# Altium footprint library My.PcbLib: 52 footprints (part 2 of 4)
Each footprint in its own frame and in the unit in brackets; x right, y up, seen from the top. Pads: shape width x height; smd on the part's side, far side on the other; paste and mask are expansions set on the pad; w line width, h text height; cw(c..) or ccw(c..) is an arc to the next point about the centre after c.
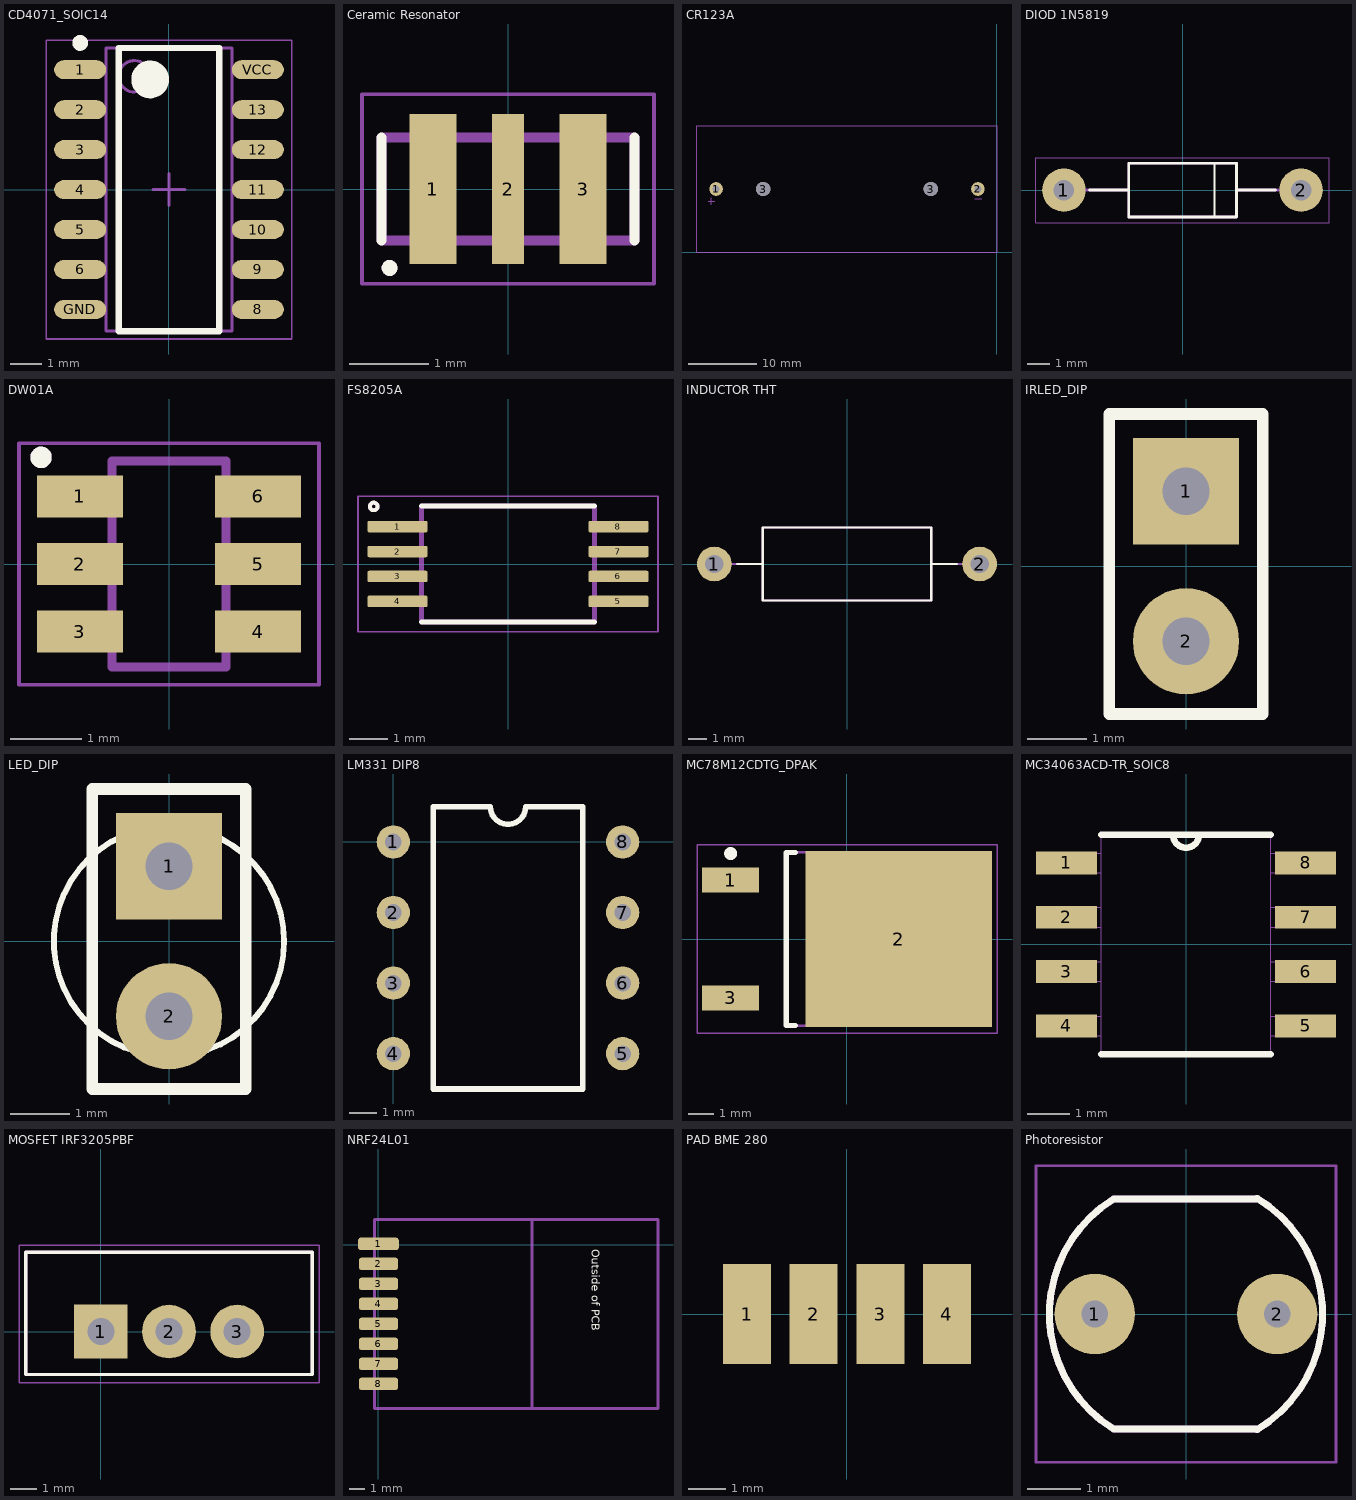
[diagram p1: the footprints below, top view; thin cyan lines are the x and y axes]

## CD4071_SOIC14 [mm] "SOIC, 14-Leads, Body 10,20x5,30mm, Pitch 1,27mm, IPC Medium Density"
height 2
pads (14):
  oval 1.65x0.6 smd: 1(-2.825,3.81) 2(-2.825,2.54) 3(-2.825,1.27) 4(-2.825,0) 5(-2.825,-1.27) 6(-2.825,-2.54) 8(2.825,-3.81) 9(2.825,-2.54) 10(2.825,-1.27) 11(2.825,0) 12(2.825,1.27) 13(2.825,2.54) GND(-2.825,-3.81) VCC(2.825,3.81)
Top Overlay:
  circle w0.25: c-2.825,4.66 r0.125
  circle w0.6: c-0.6,3.5 r0.3
  lines w0.2: -1.6,-4.5 -1.6,4.5 1.6,4.5 1.6,-4.5 -1.6,-4.5
Mechanical 13:
  circle w0.1: c-1.1,3.6 r0.5
  lines w0.1: -2,-4.5 -2,4.5 2,4.5 2,-4.5 -2,-4.5
Top Courtyard (Mech15):
  lines w0.05: -3.9,-4.75 -3.9,4.75 3.9,4.75 3.9,-4.75 -3.9,-4.75
  lines w0.1: -0.5,0 0.5,0 ; 0,-0.5 0,0.5
3D body: height 1.57, standoff 0.1, extent -2,-4.5 2,4.5

## Ceramic Resonator [mm]
pads (3):
  rect 0.6x1.9 smd: 1(-0.95,0) 3(0.95,0)
  rect 0.4x1.9 smd: 2(0,0)
Top Overlay:
  circle w0.1: c-1.5,-1 r0.05
  lines w0.127: -1.6,-0.65 -1.6,0.65 ; 1.6,-0.65 1.6,0.65
Mechanical 13:
  circle w0.1: c-1.5,-1 r0.05
  lines w0.127: -1.6,-0.65 1.6,-0.65 1.6,0.65 -1.6,0.65 -1.6,-0.65
Top Courtyard (Mech15):
  lines w0.05: -1.85,-1.2 1.85,-1.2 1.85,1.2 -1.85,1.2 -1.85,-1.2
3D body "step_temp.STEP": height 1, standoff 0, extent -1.6,-0.65 1.6,0.65

## CR123A [mm]
height 15.49
pads (4):
  round 2 hole 1: 1(-41.2,9.25) 2(-2.8,9.25)
  round 2.1 hole 2.1 unplated: 3(-34.3,9.25) 3(-9.7,9.25)
Top Courtyard:
  lines w0.127: -42.375,7.45 -41.375,7.45 ; -41.875,6.95 -41.875,7.95 ; -3.25,7.85 -2.25,7.85 ; 0,0 -44,0 -44,18.5 0,18.5 ; 0.005,0 0.005,18.5
3D body "step_temp.STEP": height 15.24, standoff -3.56, extent -43.613,0.175 -0.687,18.463

## DIOD 1N5819 [mm]
height 2.7
pads (2):
  round 1.9 hole 0.9 mask+0.102: 1(-5.18,0) 2(5.18,0)
Top Overlay:
  lines w0.1: 1.4,-1.1 1.4,1.1
  lines w0.127: -4.065,0 -2.35,0 ; 4.065,0 2.35,0 ; -2.35,0 -2.35,-1.175 2.35,-1.175 2.35,0 ; -2.35,0 -2.35,1.175 2.35,1.175 2.35,0
Mechanical 13:
  lines w0.127: -5.18,0 -2.35,0 ; 5.18,0 2.35,0 ; -2.35,0 -2.35,-1.175 2.35,-1.175 2.35,0 ; -2.35,0 -2.35,1.175 2.35,1.175 2.35,0
Top Courtyard (Mech15):
  lines w0.05: -6.4,-1.425 6.4,-1.425 6.4,1.425 -6.4,1.425 -6.4,-1.425

## DW01A [mm]
height 1.45
pads (6):
  rect 1.21x0.59 smd: 1(-1.255,0.95) 2(-1.255,0) 3(-1.255,-0.95) 4(1.255,-0.95) 5(1.255,0) 6(1.255,0.95)
Top Overlay:
  circle w0.2: c-1.8,1.5 r0.05
Mechanical 13:
  circle w0.2: c-1.8,1.5 r0.05
  lines w0.127: -0.8,-1.45 -0.8,1.45 0.8,1.45 0.8,-1.45 -0.8,-1.45
Top Courtyard (Mech15):
  lines w0.05: -2.11,-1.7 2.11,-1.7 2.11,1.7 -2.11,1.7 -2.11,-1.7
3D body "step_temp.STEP": height 1.45, standoff 0, extent -1.4,-1.45 1.4,1.45

## FS8205A [mm]
height 1.2
pads (8):
  rrect25% 1.56x0.3 smd: 1(-2.88,0.975) 2(-2.88,0.325) 3(-2.88,-0.325) 4(-2.88,-0.975) 5(2.88,-0.975) 6(2.88,-0.325) 7(2.88,0.325) 8(2.88,0.975)
Top Overlay:
  circle w0.1: c-3.5,1.5 r0.1
  lines w0.127: -2.25,-1.515 2.25,-1.515 ; -2.25,1.515 2.25,1.515
Mechanical 13:
  circle w0.1: c-3.5,1.5 r0.1
  lines w0.127: -2.25,-1.515 -2.25,1.515 2.25,1.515 2.25,-1.515 -2.25,-1.515
Top Courtyard (Mech15):
  lines w0.05: -3.91,-1.765 -3.91,1.765 3.91,1.765 3.91,-1.765 -3.91,-1.765
3D body "step_temp.STEP": height 1.2, standoff 0, extent -3.2,-1.465 3.2,1.465

## INDUCTOR THT [mm]
height 4
pads (2):
  round 1.9 hole 1: 1(-7.25,0) 2(7.25,0)
Top Overlay:
  lines w0.127: -6.005,0 -4.6,0 ; 4.6,0 6.005,0 ; -4.6,-2 -4.6,2 4.6,2 4.6,-2 -4.6,-2
Mechanical 13:
  lines w0.127: -7,0 -4.6,0 ; 4.6,0 7,0 ; -4.6,-2 4.6,-2 4.6,2 -4.6,2 -4.6,-2
3D body "step_temp.STEP": height 6, standoff -19, extent -7.375,-1.95 7.425,2.05

## IRLED_DIP [mm]
pads (2):
  rect 1.8x1.8 hole 0.8: 1(0,1.27)
  round 1.8 hole 0.8: 2(0,-1.27)
Top Overlay:
  lines w0.2: -1.3,-2.5 -1.3,2.58 1.3,2.58 1.3,-2.5 -1.3,-2.5
3D body "PLS-2_(DS1021_CONNFLY).stp": height 8.7, standoff -3, extent -1.24,-2.54 1.3,2.54

## LED_DIP [mm]
pads (2):
  rect 1.8x1.8 hole 0.8: 1(0,1.27)
  round 1.8 hole 0.8: 2(0,-1.27)
Top Overlay:
  circle w0.1: c0,0 r1.95
  lines w0.2: -1.3,-2.5 -1.3,2.58 1.3,2.58 1.3,-2.5 -1.3,-2.5

## LM331 DIP8 [mm]
pads (8):
  round 1.2 hole 0.6: 1(0,0) 2(0,-2.54) 3(0,-5.08) 4(0,-7.62) 5(8.255,-7.62) 6(8.255,-5.08) 7(8.255,-2.54) 8(8.255,0)
Top Overlay:
  lines w0.2: 1.435,-8.89 1.435,1.27 3.492,1.27 ccw(c4.127,1.27) 4.763,1.27 6.82,1.27 6.82,-8.89 1.435,-8.89

## MC78M12CDTG_DPAK [mm] "D-PAK, 3-Pads, Body 6,20x6,72mm (max), IPC Medium Density"
height 2.38
pads (3):
  rect 2.2x0.95 smd: 1(-4.5,2.28) 3(-4.5,-2.28)
  rect 7.2x6.8 smd: 2(2,0)
Top Overlay:
  circle w0.25: c-4.5,3.305 r0.125
  lines w0.2: -2,-3.35 -2.35,-3.35 -2.35,3.35 -2,3.35
Mechanical 13:
  lines w0.1: -2.35,-3.35 3.85,-3.35 3.85,3.35 -2.35,3.35 -2.35,-3.35
Top Courtyard (Mech15):
  lines w0.05: -5.8,-3.65 5.8,-3.65 5.8,3.65 -5.8,3.65 -5.8,-3.65
  lines w0.1: -0.5,0 0.5,0 ; 0,-0.5 0,0.5
3D body: height 2.38, standoff 0, extent -2.35,-3.35 3.85,3.35

## MC34063ACD-TR_SOIC8 [mil]
pads (8):
  rect 56x21 smd: 1(-110,75) 2(-110,25) 3(-110,-25) 4(-110,-75) 5(110,-75) 6(110,-25) 7(110,25) 8(110,75)
Top Overlay:
  lines w6: -78,-101 78,-101 ; -78,101 -12,101 ; 78,101 12,101 ; -12,101 ccw(c0,101) 12,101 ; -12,101 12,101
Mechanical 13:
  lines w0: -12,101 ccw(c0,101) 12,101 ; -12,101 -78,101 -78,-101 78,-101 78,101 12,101 ; -12,101 12,101 ; -124,-84 -78,-84 -78,-66 -124,-66 -124,-84 ; -124,-34 -78,-34 -78,-16 -124,-16 -124,-34 ; -124,16 -78,16 -78,34 -124,34 -124,16 ; -124,66 -78,66 -78,84 -124,84 -124,66 ; 78,-84 124,-84 124,-66 78,-66 78,-84 ; 78,-34 124,-34 124,-16 78,-16 78,-34 ; 78,16 124,16 124,34 78,34 78,16 ; 78,66 124,66 124,84 78,84 78,66
3D body "step_temp.STEP": height 68.9, standoff 0, extent -118.11,-96.46 118.11,96.46

## MOSFET IRF3205PBF [mm]
pads (3):
  rect 2x2 hole 1: 1(0,0)
  round 2 hole 1: 2(2.54,0) 3(5.08,0)
Top Overlay:
  lines w0.127: -2.8,-1.6 -2.8,2.325 -2.8,2.96 7.88,2.96 7.88,2.325 7.88,-1.6 -2.8,-1.6
Mechanical 13:
  lines w0.127: -2.8,-1.6 -2.8,2.325 -2.8,2.96 7.88,2.96 7.88,2.325 7.88,-1.6 -2.8,-1.6
Top Courtyard (Mech15):
  lines w0.05: -3.05,-1.9 -3.05,3.21 8.13,3.21 8.13,-1.9 -3.05,-1.9
3D body "step_temp.STEP": height 20.57, standoff -10.67, extent -2.54,-1.397 7.62,2.794

## NRF24L01 [mm]
pads (8):
  rrect50% 2.6x0.8 smd: 1(0,0.05)
  rrect50% 2.5x0.8 smd: 2(0,-1.22) 3(0,-2.49) 4(0,-3.76) 5(0,-5.03) 6(0,-6.3) 7(0,-7.57) 8(0,-8.84)
Top Overlay:
  text "Outside of PCB" at 13.55,-0.275 h0.5
Top Courtyard:
  lines w0.2: 9.75,-10.4 9.75,1.6 ; -0.25,-10.4 -0.25,1.6 17.75,1.6 17.75,-10.4 -0.25,-10.4
3D body "NRF24L01.stp": height 1.87, standoff -0.01, extent -0.25,-10.4 17.75,1.6

## PAD BME 280 [mm]
pads (4):
  rect 1.3x2.7 smd: 1(-2.7,0) 2(-0.9,0) 3(0.9,0) 4(2.7,0)

## Photoresistor [mm]
height 2.38
pads (2):
  round 1.5 hole 0.5: 1(-1.7,0) 2(1.7,0)
Top Overlay:
  lines w0.127: -1.364,-2.133 cw(c-0.031,0) -1.364,2.133 ; -1.345,-2.145 1.345,-2.145 ; -1.345,2.145 1.345,2.145 ; 1.326,-2.156 ccw(c0.031,0) 1.326,2.156
Mechanical 13:
  lines w0.127: -1.364,-2.133 cw(c-0.031,0) -1.364,2.133 ; -1.345,-2.145 1.345,-2.145 ; -1.345,2.145 1.345,2.145 ; 1.326,-2.156 ccw(c0.031,0) 1.326,2.156
Top Courtyard (Mech15):
  lines w0.05: -2.796,-2.766 2.796,-2.766 2.796,2.766 -2.796,2.766 -2.796,-2.766
3D body "step_temp.STEP": height 2.39, standoff -25.98, extent -2.54,-2.146 2.54,2.146